# Altium footprint library 687 1xx 149 022.PcbLib: 22 footprints (part 1 of 2)
Each footprint in its own frame and in the unit in brackets; x right, y up, seen from the top. Pads: shape width x height; smd on the part's side, far side on the other; paste and mask are expansions set on the pad; w line width, h text height; cw(c..) or ccw(c..) is an arc to the next point about the centre after c.
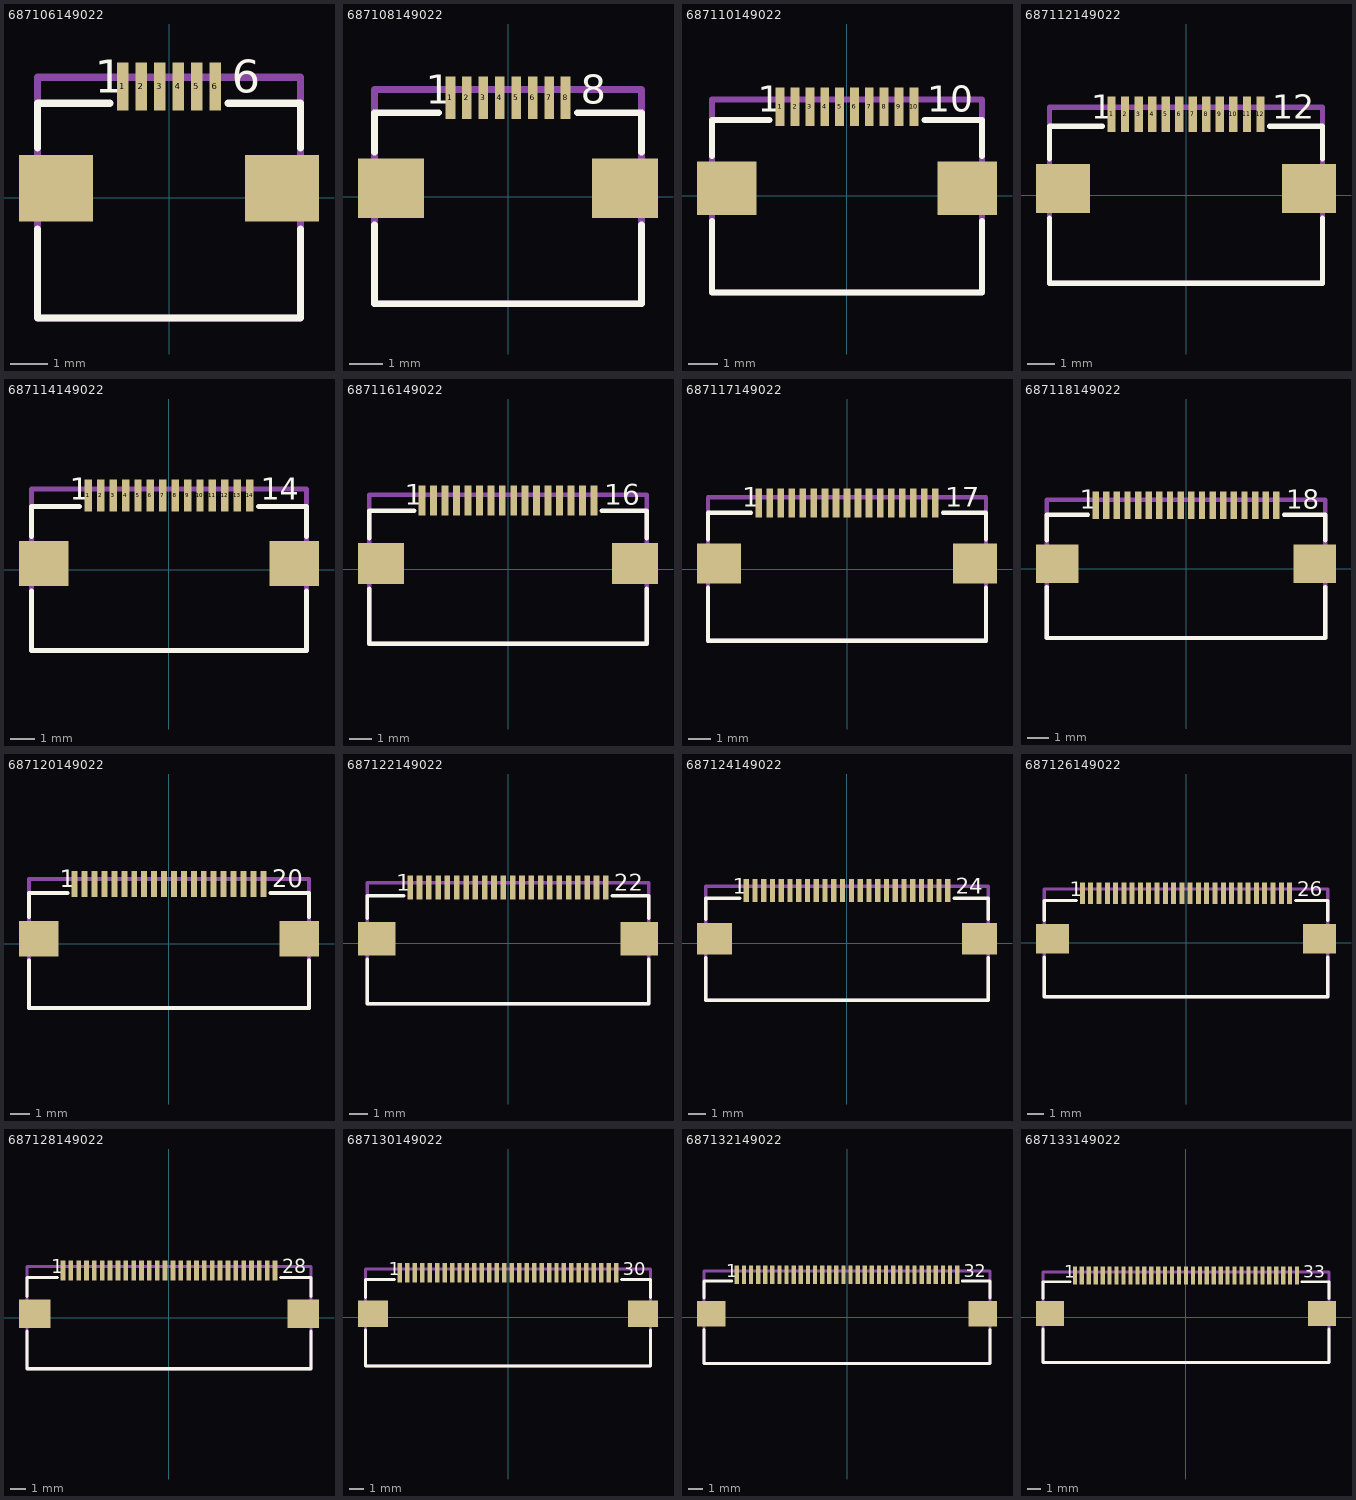
[diagram p0: the footprints below, top view; thin cyan lines are the x and y axes]

## 687106149022 [mm] "0.50 mm SMT ZIF Horizontal - Bottom Contact, 6p"
height 2.2
pads (8):
  rect 0.3x1.3 smd: 1(-1.25,3) 2(-0.75,3) 3(-0.25,3) 4(0.25,3) 5(0.75,3) 6(1.25,3)
  rect 2x1.8 smd: ""(-3.05,0.25) ""(3.05,0.25)
Top Overlay:
  lines w0.2: -3.55,-0.85 -3.55,-3.25 3.55,-3.25 3.55,-0.85 ; -3.55,1.35 -3.55,2.55 -1.603,2.55 ; 1.603,2.55 3.55,2.55 3.55,1.35
  text "6" at 1.7,2.825 h0.89
  text "1" at -2,2.825 h0.89
Mechanical 13:
  lines w0.2: -3.55,-3.25 3.55,-3.25 3.55,3.25 -3.55,3.25 -3.55,-3.25
3D body "687106149022.stp": height 2.25, standoff 0, extent -3.55,-3.25 3.55,3.25

## 687108149022 [mm] "0.50 mm SMT ZIF Horizontal - Bottom Contact, 8p"
height 2.2
pads (10):
  rect 0.3x1.3 smd: 1(-1.75,3) 2(-1.25,3) 3(-0.75,3) 4(-0.25,3) 5(0.25,3) 6(0.75,3) 7(1.25,3) 8(1.75,3)
  rect 2x1.8 smd: ""(-3.55,0.25) ""(3.55,0.25)
Top Overlay:
  lines w0.2: -4.05,-0.85 -4.05,-3.25 4.05,-3.25 4.05,-0.85 ; -4.05,1.35 -4.05,2.55 -2.103,2.55 ; 2.103,2.55 4.05,2.55 4.05,1.35
  text "1" at -2.5,2.825 h0.89
  text "8" at 2.2,2.825 h0.89
Mechanical 13:
  lines w0.2: -4.05,-3.25 -4.05,3.25 4.05,3.25 4.05,-3.25 -4.05,-3.25
3D body "687108149022.stp": height 2.25, standoff 0, extent -4.05,-3.25 4.05,3.25

## 687110149022 [mm] "0.50 mm SMT ZIF Horizontal - Bottom Contact, 10p"
height 2.2
pads (12):
  rect 0.3x1.3 smd: 1(-2.25,3) 2(-1.75,3) 3(-1.25,3) 4(-0.75,3) 5(-0.25,3) 6(0.25,3) 7(0.75,3) 8(1.25,3) 9(1.75,3) 10(2.25,3)
  rect 2x1.8 smd: ""(-4.05,0.25) ""(4.05,0.25)
Top Overlay:
  lines w0.2: -4.55,-0.85 -4.55,-3.25 4.55,-3.25 4.55,-0.85 ; -4.55,1.35 -4.55,2.55 -2.603,2.55 ; 2.603,2.55 4.55,2.55 4.55,1.35
  text "1" at -3,2.825 h0.89
  text "10" at 2.7,2.825 h0.89
Mechanical 13:
  lines w0.2: -4.55,-3.25 -4.55,3.25 4.55,3.25 4.55,-3.25 -4.55,-3.25
3D body "687110149022.stp": height 2.25, standoff 0, extent -4.55,-3.25 4.55,3.25

## 687112149022 [mm] "0.50 mm SMT ZIF Horizontal - Bottom Contact, 12p"
height 2.2
pads (14):
  rect 0.3x1.3 smd: 1(-2.75,3) 2(-2.25,3) 3(-1.75,3) 4(-1.25,3) 5(-0.75,3) 6(-0.25,3) 7(0.25,3) 8(0.75,3) 9(1.25,3) 10(1.75,3) 11(2.25,3) 12(2.75,3)
  rect 2x1.8 smd: ""(-4.55,0.25) ""(4.55,0.25)
Top Overlay:
  lines w0.2: -5.05,-0.85 -5.05,-3.25 5.05,-3.25 5.05,-0.85 ; -5.05,1.35 -5.05,2.55 -3.103,2.55 ; 3.103,2.55 5.05,2.55 5.05,1.35
  text "1" at -3.5,2.825 h0.89
  text "12" at 3.2,2.825 h0.89
Mechanical 13:
  lines w0.2: -5.05,-3.25 -5.05,3.25 5.05,3.25 5.05,-3.25 -5.05,-3.25
3D body "687112149022.stp": height 2.25, standoff 0, extent -5.05,-3.25 5.05,3.25

## 687114149022 [mm] "0.50 mm SMT ZIF Horizontal - Bottom Contact, 14p"
height 2.2
pads (16):
  rect 0.3x1.3 smd: 1(-3.25,3) 2(-2.75,3) 3(-2.25,3) 4(-1.75,3) 5(-1.25,3) 6(-0.75,3) 7(-0.25,3) 8(0.25,3) 9(0.75,3) 10(1.25,3) 11(1.75,3) 12(2.25,3) 13(2.75,3) 14(3.25,3)
  rect 2x1.8 smd: ""(-5.05,0.25) ""(5.05,0.25)
Top Overlay:
  lines w0.2: -5.55,-0.85 -5.55,-3.25 5.55,-3.25 5.55,-0.85 ; -5.55,1.35 -5.55,2.55 -3.603,2.55 ; 3.603,2.55 5.55,2.55 5.55,1.35
  text "14" at 3.7,2.825 h0.89
  text "1" at -4,2.825 h0.89
Mechanical 13:
  lines w0.2: -5.55,-3.25 5.55,-3.25 5.55,3.25 -5.55,3.25 -5.55,-3.25
3D body "687114149022.stp": height 2.25, standoff 0, extent -5.55,-3.25 5.55,3.25

## 687116149022 [mm] "0.50 mm SMT ZIF Horizontal - Bottom Contact, 16p"
height 2.2
pads (18):
  rect 0.3x1.3 smd: 1(-3.75,3) 2(-3.25,3) 3(-2.75,3) 4(-2.25,3) 5(-1.75,3) 6(-1.25,3) 7(-0.75,3) 8(-0.25,3) 9(0.25,3) 10(0.75,3) 11(1.25,3) 12(1.75,3) 13(2.25,3) 14(2.75,3) 15(3.25,3) 16(3.75,3)
  rect 2x1.8 smd: ""(-5.55,0.25) ""(5.55,0.25)
Top Overlay:
  lines w0.2: -6.05,-0.85 -6.05,-3.25 6.05,-3.25 6.05,-0.85 ; -6.05,1.35 -6.05,2.55 -4.103,2.55 ; 4.103,2.55 6.05,2.55 6.05,1.35
  text "16" at 4.2,2.825 h0.89
  text "1" at -4.5,2.825 h0.89
Mechanical 13:
  lines w0.2: -6.05,-3.25 6.05,-3.25 6.05,3.25 -6.05,3.25 -6.05,-3.25
3D body "687116149022.stp": height 2.25, standoff 0, extent -6.05,-3.25 6.05,3.25

## 687117149022 [mm] "0.50 mm SMT ZIF Horizontal - Bottom Contact, 17p"
height 2.2
pads (19):
  rect 0.3x1.3 smd: 1(-4,3) 2(-3.5,3) 3(-3,3) 4(-2.5,3) 5(-2,3) 6(-1.5,3) 7(-1,3) 8(-0.5,3) 9(0,3) 10(0.5,3) 11(1,3) 12(1.5,3) 13(2,3) 14(2.5,3) 15(3,3) 16(3.5,3) 17(4,3)
  rect 2x1.8 smd: ""(-5.8,0.25) ""(5.8,0.25)
Top Overlay:
  lines w0.2: -6.3,-0.85 -6.3,-3.25 6.3,-3.25 6.3,-0.85 ; -6.3,1.35 -6.3,2.55 -4.353,2.55 ; 4.353,2.55 6.3,2.55 6.3,1.35
  text "17" at 4.45,2.825 h0.89
  text "1" at -4.75,2.825 h0.89
Mechanical 13:
  lines w0.2: -6.3,-3.25 6.3,-3.25 6.3,3.25 -6.3,3.25 -6.3,-3.25
3D body "687117149022.stp": height 2.25, standoff 0, extent -6.3,-3.25 6.3,3.25

## 687118149022 [mm] "0.50 mm SMT ZIF Horizontal - Bottom Contact, 18p"
height 2.2
pads (20):
  rect 0.3x1.3 smd: 1(-4.25,3) 2(-3.75,3) 3(-3.25,3) 4(-2.75,3) 5(-2.25,3) 6(-1.75,3) 7(-1.25,3) 8(-0.75,3) 9(-0.25,3) 10(0.25,3) 11(0.75,3) 12(1.25,3) 13(1.75,3) 14(2.25,3) 15(2.75,3) 16(3.25,3) 17(3.75,3) 18(4.25,3)
  rect 2x1.8 smd: ""(-6.05,0.25) ""(6.05,0.25)
Top Overlay:
  lines w0.2: -6.55,-0.85 -6.55,-3.25 6.55,-3.25 6.55,-0.85 ; -6.55,1.35 -6.55,2.55 -4.603,2.55 ; 4.603,2.55 6.55,2.55 6.55,1.35
  text "18" at 4.7,2.825 h0.89
  text "1" at -5,2.825 h0.89
Mechanical 13:
  lines w0.2: -6.55,-3.25 6.55,-3.25 6.55,3.25 -6.55,3.25 -6.55,-3.25
3D body "687118149022.stp": height 2.25, standoff 0, extent -6.55,-3.25 6.55,3.25

## 687120149022 [mm] "0.50 mm SMT ZIF Horizontal - Bottom Contact, 20p"
height 2.2
pads (22):
  rect 0.3x1.3 smd: 1(-4.75,3) 2(-4.25,3) 3(-3.75,3) 4(-3.25,3) 5(-2.75,3) 6(-2.25,3) 7(-1.75,3) 8(-1.25,3) 9(-0.75,3) 10(-0.25,3) 11(0.25,3) 12(0.75,3) 13(1.25,3) 14(1.75,3) 15(2.25,3) 16(2.75,3) 17(3.25,3) 18(3.75,3) 19(4.25,3) 20(4.75,3)
  rect 2x1.8 smd: ""(-6.55,0.25) ""(6.55,0.25)
Top Overlay:
  lines w0.2: -7.05,-0.85 -7.05,-3.25 7.05,-3.25 7.05,-0.85 ; -7.05,1.35 -7.05,2.55 -5.103,2.55 ; 5.103,2.55 7.05,2.55 7.05,1.35
  text "20" at 5.2,2.825 h0.89
  text "1" at -5.5,2.825 h0.89
Mechanical 13:
  lines w0.2: -7.05,-3.25 7.05,-3.25 7.05,3.25 -7.05,3.25 -7.05,-3.25
3D body "687120149022.stp": height 2.25, standoff 0, extent -7.05,-3.25 7.05,3.25

## 687122149022 [mm] "0.50 mm SMT ZIF Horizontal - Bottom Contact, 22p"
height 2.2
pads (24):
  rect 0.3x1.3 smd: 1(-5.25,3) 2(-4.75,3) 3(-4.25,3) 4(-3.75,3) 5(-3.25,3) 6(-2.75,3) 7(-2.25,3) 8(-1.75,3) 9(-1.25,3) 10(-0.75,3) 11(-0.25,3) 12(0.25,3) 13(0.75,3) 14(1.25,3) 15(1.75,3) 16(2.25,3) 17(2.75,3) 18(3.25,3) 19(3.75,3) 20(4.25,3) 21(4.75,3) 22(5.25,3)
  rect 2x1.8 smd: ""(-7.05,0.25) ""(7.05,0.25)
Top Overlay:
  lines w0.2: -7.55,-0.85 -7.55,-3.25 7.55,-3.25 7.55,-0.85 ; -7.55,1.35 -7.55,2.55 -5.603,2.55 ; 5.603,2.55 7.55,2.55 7.55,1.35
  text "1" at -6,2.825 h0.89
  text "22" at 5.7,2.825 h0.89
Mechanical 13:
  lines w0.2: -7.55,-3.25 -7.55,3.25 7.55,3.25 7.55,-3.25 -7.55,-3.25
3D body "687122149022.stp": height 2.25, standoff 0, extent -7.55,-3.25 7.55,3.25

## 687124149022 [mm] "0.50 mm SMT ZIF Horizontal - Bottom Contact, 24p"
height 2.2
pads (26):
  rect 0.3x1.3 smd: 1(-5.75,3) 2(-5.25,3) 3(-4.75,3) 4(-4.25,3) 5(-3.75,3) 6(-3.25,3) 7(-2.75,3) 8(-2.25,3) 9(-1.75,3) 10(-1.25,3) 11(-0.75,3) 12(-0.25,3) 13(0.25,3) 14(0.75,3) 15(1.25,3) 16(1.75,3) 17(2.25,3) 18(2.75,3) 19(3.25,3) 20(3.75,3) 21(4.25,3) 22(4.75,3) 23(5.25,3) 24(5.75,3)
  rect 2x1.8 smd: ""(-7.55,0.25) ""(7.55,0.25)
Top Overlay:
  lines w0.2: -8.05,-0.85 -8.05,-3.25 8.05,-3.25 8.05,-0.85 ; -8.05,1.35 -8.05,2.55 -6.103,2.55 ; 6.103,2.55 8.05,2.55 8.05,1.35
  text "24" at 6.2,2.825 h0.89
  text "1" at -6.5,2.825 h0.89
Mechanical 13:
  lines w0.2: -8.05,-3.25 8.05,-3.25 8.05,3.25 -8.05,3.25 -8.05,-3.25
3D body "687124149022.stp": height 2.25, standoff 0, extent -8.05,-3.25 8.05,3.25

## 687126149022 [mm] "0.50 mm SMT ZIF Horizontal - Bottom Contact, 26p"
height 2.2
pads (28):
  rect 0.3x1.3 smd: 1(-6.25,3) 2(-5.75,3) 3(-5.25,3) 4(-4.75,3) 5(-4.25,3) 6(-3.75,3) 7(-3.25,3) 8(-2.75,3) 9(-2.25,3) 10(-1.75,3) 11(-1.25,3) 12(-0.75,3) 13(-0.25,3) 14(0.25,3) 15(0.75,3) 16(1.25,3) 17(1.75,3) 18(2.25,3) 19(2.75,3) 20(3.25,3) 21(3.75,3) 22(4.25,3) 23(4.75,3) 24(5.25,3) 25(5.75,3) 26(6.25,3)
  rect 2x1.8 smd: ""(-8.05,0.25) ""(8.05,0.25)
Top Overlay:
  lines w0.2: -8.55,-0.85 -8.55,-3.25 8.55,-3.25 8.55,-0.85 ; -8.55,1.35 -8.55,2.55 -6.603,2.55 ; 6.603,2.55 8.55,2.55 8.55,1.35
  text "1" at -7,2.825 h0.89
  text "26" at 6.7,2.825 h0.89
Mechanical 13:
  lines w0.2: -8.55,-3.25 -8.55,3.25 8.55,3.25 8.55,-3.25 -8.55,-3.25
3D body "687126149022.stp": height 2.25, standoff 0, extent -8.55,-3.25 8.55,3.25

## 687128149022 [mm] "0.50 mm SMT ZIF Horizontal - Bottom Contact, 28p"
height 2.2
pads (30):
  rect 0.3x1.3 smd: 1(-6.75,3) 2(-6.25,3) 3(-5.75,3) 4(-5.25,3) 5(-4.75,3) 6(-4.25,3) 7(-3.75,3) 8(-3.25,3) 9(-2.75,3) 10(-2.25,3) 11(-1.75,3) 12(-1.25,3) 13(-0.75,3) 14(-0.25,3) 15(0.25,3) 16(0.75,3) 17(1.25,3) 18(1.75,3) 19(2.25,3) 20(2.75,3) 21(3.25,3) 22(3.75,3) 23(4.25,3) 24(4.75,3) 25(5.25,3) 26(5.75,3) 27(6.25,3) 28(6.75,3)
  rect 2x1.8 smd: ""(-8.55,0.25) ""(8.55,0.25)
Top Overlay:
  lines w0.2: -9.05,-0.85 -9.05,-3.25 9.05,-3.25 9.05,-0.85 ; -9.05,1.35 -9.05,2.55 -7.103,2.55 ; 7.103,2.55 9.05,2.55 9.05,1.35
  text "1" at -7.5,2.825 h0.89
  text "28" at 7.2,2.825 h0.89
Mechanical 13:
  lines w0.2: -9.05,-3.25 -9.05,3.25 9.05,3.25 9.05,-3.25 -9.05,-3.25
3D body "687128149022.stp": height 2.25, standoff 0, extent -9.05,-3.25 9.05,3.25

## 687130149022 [mm] "0.50 mm SMT ZIF Horizontal - Bottom Contact, 30p"
height 2.2
pads (32):
  rect 0.3x1.3 smd: 1(-7.25,3) 2(-6.75,3) 3(-6.25,3) 4(-5.75,3) 5(-5.25,3) 6(-4.75,3) 7(-4.25,3) 8(-3.75,3) 9(-3.25,3) 10(-2.75,3) 11(-2.25,3) 12(-1.75,3) 13(-1.25,3) 14(-0.75,3) 15(-0.25,3) 16(0.25,3) 17(0.75,3) 18(1.25,3) 19(1.75,3) 20(2.25,3) 21(2.75,3) 22(3.25,3) 23(3.75,3) 24(4.25,3) 25(4.75,3) 26(5.25,3) 27(5.75,3) 28(6.25,3) 29(6.75,3) 30(7.25,3)
  rect 2x1.8 smd: ""(-9.05,0.25) ""(9.05,0.25)
Top Overlay:
  lines w0.2: -9.55,-0.85 -9.55,-3.25 9.55,-3.25 9.55,-0.85 ; -9.55,1.35 -9.55,2.55 -7.603,2.55 ; 7.603,2.55 9.55,2.55 9.55,1.35
  text "1" at -8,2.825 h0.89
  text "30" at 7.7,2.825 h0.89
Mechanical 13:
  lines w0.2: -9.55,-3.25 -9.55,3.25 9.55,3.25 9.55,-3.25 -9.55,-3.25
3D body "687130149022.stp": height 2.25, standoff 0, extent -9.55,-3.25 9.55,3.25

## 687132149022 [mm] "0.50 mm SMT ZIF Horizontal - Bottom Contact, 32p"
height 2.2
pads (34):
  rect 0.3x1.3 smd: 1(-7.75,3) 2(-7.25,3) 3(-6.75,3) 4(-6.25,3) 5(-5.75,3) 6(-5.25,3) 7(-4.75,3) 8(-4.25,3) 9(-3.75,3) 10(-3.25,3) 11(-2.75,3) 12(-2.25,3) 13(-1.75,3) 14(-1.25,3) 15(-0.75,3) 16(-0.25,3) 17(0.25,3) 18(0.75,3) 19(1.25,3) 20(1.75,3) 21(2.25,3) 22(2.75,3) 23(3.25,3) 24(3.75,3) 25(4.25,3) 26(4.75,3) 27(5.25,3) 28(5.75,3) 29(6.25,3) 30(6.75,3) 31(7.25,3) 32(7.75,3)
  rect 2x1.8 smd: ""(-9.55,0.25) ""(9.55,0.25)
Top Overlay:
  lines w0.2: -10.05,-0.85 -10.05,-3.25 10.05,-3.25 10.05,-0.85 ; -10.05,1.35 -10.05,2.55 -8.103,2.55 ; 8.103,2.55 10.05,2.55 10.05,1.35
  text "1" at -8.5,2.825 h0.89
  text "32" at 8.2,2.825 h0.89
Mechanical 13:
  lines w0.2: -10.05,-3.25 -10.05,3.25 10.05,3.25 10.05,-3.25 -10.05,-3.25
3D body "687132149022.stp": height 2.25, standoff 0, extent -10.05,-3.25 10.05,3.25

## 687133149022 [mm] "0.50 mm SMT ZIF Horizontal - Bottom Contact, 33p"
height 2.2
pads (35):
  rect 0.3x1.3 smd: 1(-8,3) 2(-7.5,3) 3(-7,3) 4(-6.5,3) 5(-6,3) 6(-5.5,3) 7(-5,3) 8(-4.5,3) 9(-4,3) 10(-3.5,3) 11(-3,3) 12(-2.5,3) 13(-2,3) 14(-1.5,3) 15(-1,3) 16(-0.5,3) 17(0,3) 18(0.5,3) 19(1,3) 20(1.5,3) 21(2,3) 22(2.5,3) 23(3,3) 24(3.5,3) 25(4,3) 26(4.5,3) 27(5,3) 28(5.5,3) 29(6,3) 30(6.5,3) 31(7,3) 32(7.5,3) 33(8,3)
  rect 2x1.8 smd: ""(-9.8,0.25) ""(9.8,0.25)
Top Overlay:
  lines w0.2: -10.3,-0.85 -10.3,-3.25 10.3,-3.25 10.3,-0.85 ; -10.3,1.35 -10.3,2.55 -8.353,2.55 ; 8.353,2.55 10.3,2.55 10.3,1.35
  text "1" at -8.75,2.825 h0.89
  text "33" at 8.45,2.825 h0.89
Mechanical 13:
  lines w0.2: -10.3,-3.25 -10.3,3.25 10.3,3.25 10.3,-3.25 -10.3,-3.25
3D body "687133149022.stp": height 2.25, standoff 0, extent -10.3,-3.25 10.3,3.25